# EAGLE library part TPS65131RGERG4 (library TPS65131RGERG4)
Conv DC-DC 2.7V to 5.5V Inv/Step Up Dual-Out -15V to -2V/3.2V to 15V 1.95A 24-Pin VQFN EP T/R Source: Datasheet
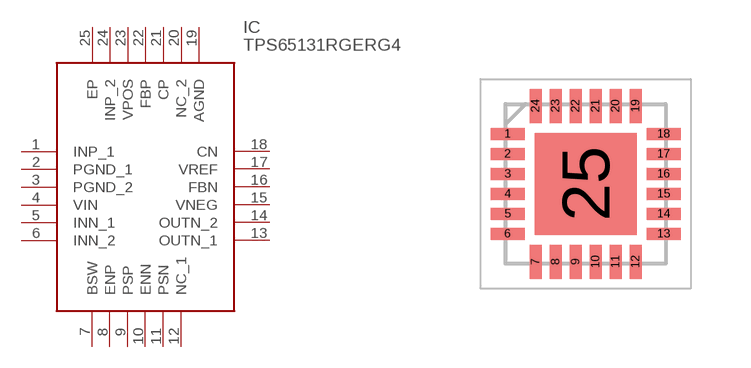
[diagram p0: symbol with the pads of QFN50P400X400X100-25N; footprint QFN50P400X400X100-25N]

Designator prefix IC

## TPS65131RGERG4 (Description: Conv DC-DC 2.7V to 5.5V Inv/Step Up Dual-Out -15V to -2V/3.2V to 15V 1.95A 24-Pin VQFN EP T/R; Height: 1mm; Manufacturer_Name: Texas Instruments; Manufacturer_Part_Number: TPS65131RGERG4; Mouser_Part_Number: 595-TPS65131RGERG4; Mouser_Price-Stock: https://www.mouser.co.uk/ProductDetail/Texas-Instruments/TPS65131RGERG4?qs=Gse6rAGbi789eahqaFddAw%3D%3D)  [QFN50P400X400X100-25N]
1  INP_1
2  PGND_1
3  PGND_2
4  VIN
5  INN_1
6  INN_2
7  BSW
8  ENP
9  PSP
10  ENN
11  PSN
12  NC_1
13  OUTN_1
14  OUTN_2
15  VNEG
16  FBN
17  VREF
18  CN
19  AGND
20  NC_2
21  CP
22  FBP
23  VPOS
24  INP_2
25  EP

## Footprint QFN50P400X400X100-25N (pad centres in mm)
RGE0024B
smd 0.85 x 0.3: 1 -1.95,1.25; 2 -1.95,0.75; 3 -1.95,0.25; 4 -1.95,-0.25; 5 -1.95,-0.75; 6 -1.95,-1.25; 13 1.95,-1.25; 14 1.95,-0.75; 15 1.95,-0.25; 16 1.95,0.25; 17 1.95,0.75; 18 1.95,1.25
smd 0.3 x 0.85: 7 -1.25,-1.95; 8 -0.75,-1.95; 9 -0.25,-1.95; 10 0.25,-1.95; 11 0.75,-1.95; 12 1.25,-1.95; 19 1.25,1.95; 20 0.75,1.95; 21 0.25,1.95; 22 -0.25,1.95; 23 -0.75,1.95; 24 -1.25,1.95
smd 2.55 x 2.55: 25 0,0